# EAGLE library part DEMO (library Ilya_Teach)
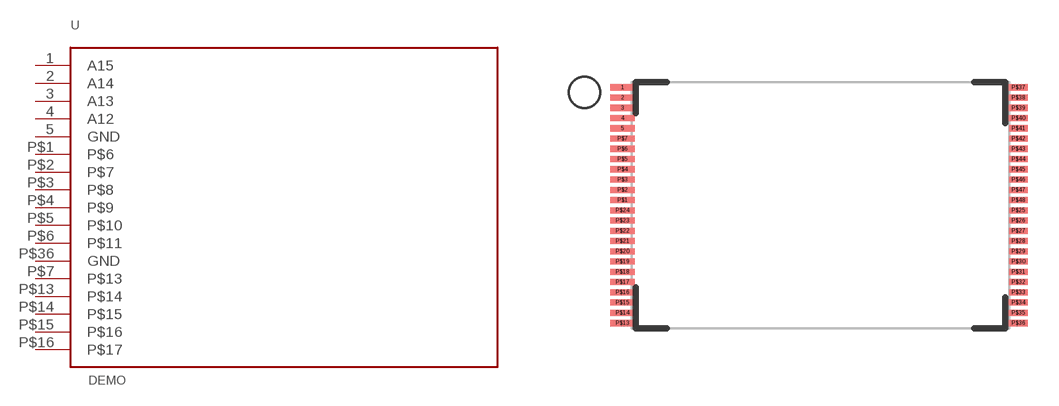
[diagram p9: symbol with the pads of DEMO; footprint DEMO]

Designator prefix -

## DEMOA  [DEMO]
1  A15
2  A14
3  A13
4  A12
5  GND
P$1  P$6
P$2  P$7
P$3  P$8
P$4  P$9
P$5  P$10
P$6  P$11
P$7  P$13
P$13  P$14
P$14  P$15
P$15  P$16
P$16  P$17
P$36  GND

## Footprint DEMO (pad centres in mm)
smd 1.2 x 0.3: 1 -9.65,5.75; 2 -9.65,5.25; 3 -9.65,4.75; 4 -9.65,4.25; 5 -9.65,3.75; P$1 -9.65,0.25; P$2 -9.65,0.75; P$3 -9.65,1.25; P$4 -9.65,1.75; P$5 -9.65,2.25; P$6 -9.65,2.75; P$7 -9.65,3.25; P$13 -9.65,-5.75; P$14 -9.65,-5.25; P$15 -9.65,-4.75; P$16 -9.65,-4.25; P$17 -9.65,-3.75; P$18 -9.65,-3.25; P$19 -9.65,-2.75; P$20 -9.65,-2.25; P$21 -9.65,-1.75; P$22 -9.65,-1.25; P$23 -9.65,-0.75; P$24 -9.65,-0.25
smd 0.9 x 0.3: P$25 9.65,-0.25; P$26 9.65,-0.75; P$27 9.65,-1.25; P$28 9.65,-1.75; P$29 9.65,-2.25; P$30 9.65,-2.75; P$31 9.65,-3.25; P$32 9.65,-3.75; P$33 9.65,-4.25; P$34 9.65,-4.75; P$35 9.65,-5.25; P$36 9.65,-5.75; P$37 9.65,5.75; P$38 9.65,5.25; P$39 9.65,4.75; P$40 9.65,4.25; P$41 9.65,3.75; P$42 9.65,3.25; P$43 9.65,2.75; P$44 9.65,2.25; P$45 9.65,1.75; P$46 9.65,1.25; P$47 9.65,0.75; P$48 9.65,0.25